# EAGLE library part SIM7600G-H (library SIM7600G-H)
LTE-FDD/LTE TDD/HSPA+/UMTS/EDGE/GPRS/GSM module solution Source: Datasheet <https://www.waveshare.com/w/upload/e/e6/SIM7600G_SIM7600G-H_Hardware_Design_V1.00.pdf>
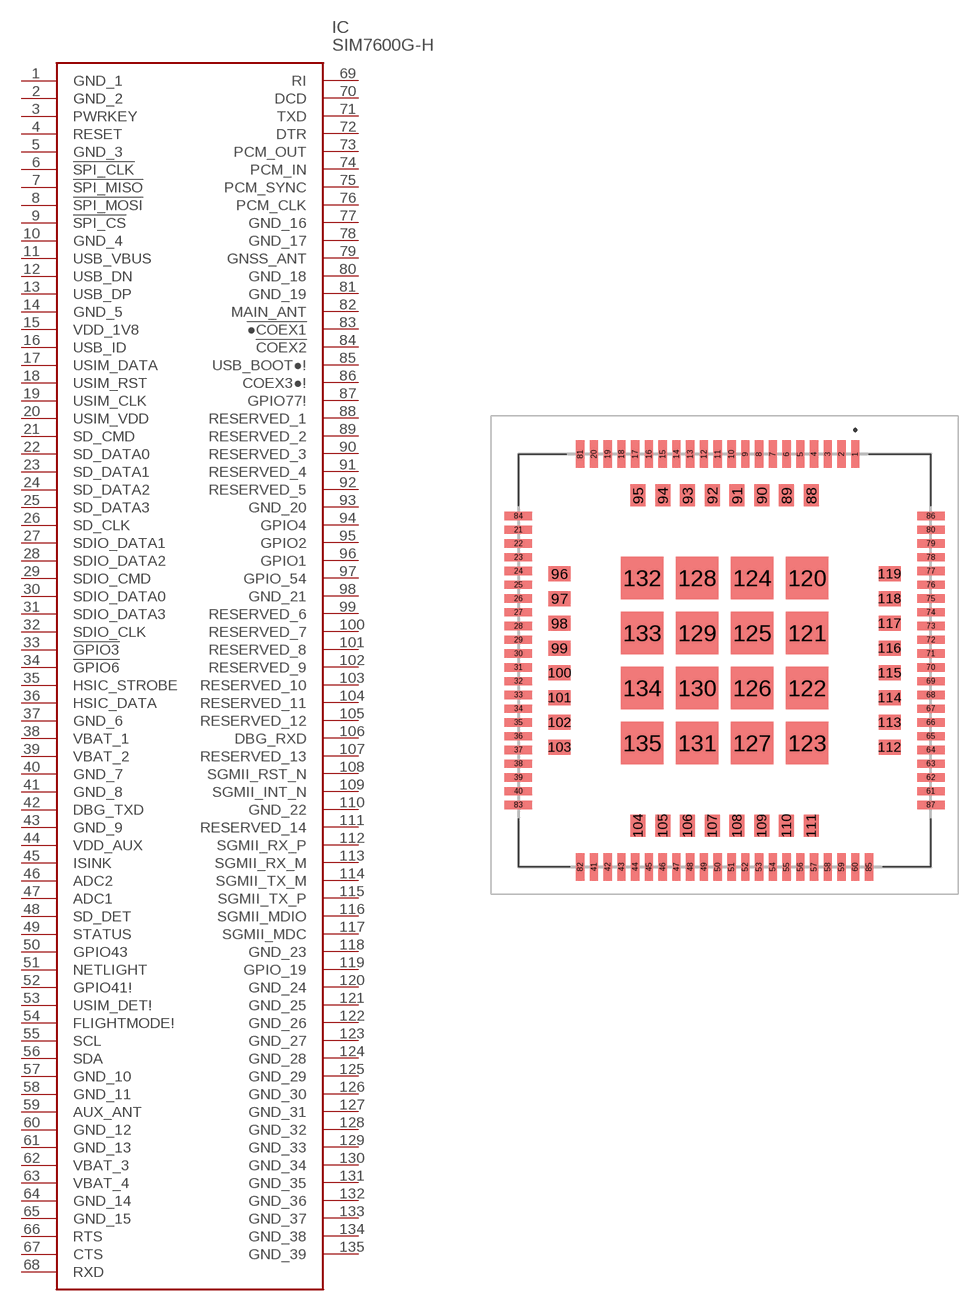
[diagram p0: symbol with the pads of SIM7600GH; footprint SIM7600GH]

Designator prefix IC

## SIM7600G-H (Description: LTE-FDD/LTE TDD/HSPA+/UMTS/EDGE/GPRS/GSM module solution; Height: 3.1mm; Manufacturer_Name: SIMCOM; Manufacturer_Part_Number: SIM7600G-H)  [SIM7600GH]
1  GND_1
2  GND_2
3  PWRKEY
4  RESET
5  GND_3
6  !SPI_CLK
7  !SPI_MISO
8  !SPI_MOSI
9  !SPI_CS
10  GND_4
11  USB_VBUS
12  USB_DN
13  USB_DP
14  GND_5
15  VDD_1V8
16  USB_ID
17  USIM_DATA
18  USIM_RST
19  USIM_CLK
20  USIM_VDD
21  SD_CMD
22  SD_DATA0
23  SD_DATA1
24  SD_DATA2
25  SD_DATA3
26  SD_CLK
27  SDIO_DATA1
28  SDIO_DATA2
29  SDIO_CMD
30  SDIO_DATA0
31  SDIO_DATA3
32  SDIO_CLK
33  !GPIO3
34  !GPIO6
35  HSIC_STROBE
36  HSIC_DATA
37  GND_6
38  VBAT_1
39  VBAT_2
40  GND_7
41  GND_8
42  DBG_TXD
43  GND_9
44  VDD_AUX
45  ISINK
46  ADC2
47  ADC1
48  SD_DET
49  STATUS
50  GPIO43
51  NETLIGHT
52  GPIO41!
53  USIM_DET!
54  FLIGHTMODE!
55  SCL
56  SDA
57  GND_10
58  GND_11
59  AUX_ANT
60  GND_12
61  GND_13
62  VBAT_3
63  VBAT_4
64  GND_14
65  GND_15
66  RTS
67  CTS
68  RXD
69  RI
70  DCD
71  TXD
72  DTR
73  PCM_OUT
74  PCM_IN
75  PCM_SYNC
76  PCM_CLK
77  GND_16
78  GND_17
79  GNSS_ANT
80  GND_18
81  GND_19
82  MAIN_ANT
83  !●COEX1
84  !COEX2
85  USB_BOOT●!
86  COEX3●!
87  GPIO77!
88  RESERVED_1
89  RESERVED_2
90  RESERVED_3
91  RESERVED_4
92  RESERVED_5
93  GND_20
94  GPIO4
95  GPIO2
96  GPIO1
97  GPIO_54
98  GND_21
99  RESERVED_6
100  RESERVED_7
101  RESERVED_8
102  RESERVED_9
103  RESERVED_10
104  RESERVED_11
105  RESERVED_12
106  DBG_RXD
107  RESERVED_13
108  SGMII_RST_N
109  SGMII_INT_N
110  GND_22
111  RESERVED_14
112  SGMII_RX_P
113  SGMII_RX_M
114  SGMII_TX_M
115  SGMII_TX_P
116  SGMII_MDIO
117  SGMII_MDC
118  GND_23
119  GPIO_19
120  GND_24
121  GND_25
122  GND_26
123  GND_27
124  GND_28
125  GND_29
126  GND_30
127  GND_31
128  GND_32
129  GND_33
130  GND_34
131  GND_35
132  GND_36
133  GND_37
134  GND_38
135  GND_39

## Footprint SIM7600GH (pad centres in mm)
SIM7600G-H-1
smd 0.6 x 2: 1 9.5,15; 2 8.5,15; 3 7.5,15; 4 6.5,15; 5 5.5,15; 6 4.5,15; 7 3.5,15; 8 2.5,15; 9 1.5,15; 10 0.5,15; 11 -0.5,15; 12 -1.5,15; 13 -2.5,15; 14 -3.5,15; 15 -4.5,15; 16 -5.5,15; 17 -6.5,15; 18 -7.5,15; 19 -8.5,15; 20 -9.5,15; 41 -9.5,-15; 42 -8.5,-15; 43 -7.5,-15; 44 -6.5,-15; 45 -5.5,-15; 46 -4.5,-15; 47 -3.5,-15; 48 -2.5,-15; 49 -1.5,-15; 50 -0.5,-15; 51 0.5,-15; 52 1.5,-15; 53 2.5,-15; 54 3.5,-15; 55 4.5,-15; 56 5.5,-15; 57 6.5,-15; 58 7.5,-15; 59 8.5,-15; 60 9.5,-15; 81 -10.5,15; 82 -10.5,-15; 85 10.5,-15
smd 2 x 0.6: 21 -15,9.5; 22 -15,8.5; 23 -15,7.5; 24 -15,6.5; 25 -15,5.5; 26 -15,4.5; 27 -15,3.5; 28 -15,2.5; 29 -15,1.5; 30 -15,0.5; 31 -15,-0.5; 32 -15,-1.5; 33 -15,-2.5; 34 -15,-3.5; 35 -15,-4.5; 36 -15,-5.5; 37 -15,-6.5; 38 -15,-7.5; 39 -15,-8.5; 40 -15,-9.5; 61 15,-9.5; 62 15,-8.5; 63 15,-7.5; 64 15,-6.5; 65 15,-5.5; 66 15,-4.5; 67 15,-3.5; 68 15,-2.5; 69 15,-1.5; 70 15,-0.5; 71 15,0.5; 72 15,1.5; 73 15,2.5; 74 15,3.5; 75 15,4.5; 76 15,5.5; 77 15,6.5; 78 15,7.5; 79 15,8.5; 80 15,9.5; 83 -15,-10.5; 84 -15,10.5; 86 15,10.5; 87 15,-10.5
smd 1.1 x 1.6: 88 6.3,12; 89 4.5,12; 90 2.7,12; 91 0.9,12; 92 -0.9,12; 93 -2.7,12; 94 -4.5,12; 95 -6.3,12; 104 -6.3,-12; 105 -4.5,-12; 106 -2.7,-12; 107 -0.9,-12; 108 0.9,-12; 109 2.7,-12; 110 4.5,-12; 111 6.3,-12
smd 1.6 x 1.1: 96 -12,6.3; 97 -12,4.5; 98 -12,2.7; 99 -12,0.9; 100 -12,-0.9; 101 -12,-2.7; 102 -12,-4.5; 103 -12,-6.3; 112 12,-6.3; 113 12,-4.5; 114 12,-2.7; 115 12,-0.9; 116 12,0.9; 117 12,2.7; 118 12,4.5; 119 12,6.3
smd 3.1 x 3.1: 120 6,6; 121 6,2; 122 6,-2; 123 6,-6; 124 2,6; 125 2,2; 126 2,-2; 127 2,-6; 128 -2,6; 129 -2,2; 130 -2,-2; 131 -2,-6; 132 -6,6; 133 -6,2; 134 -6,-2; 135 -6,-6